# Altium footprint library TO254P483X1016X1944-3B.PcbLib: 1 footprints
Each footprint in its own frame and in the unit in brackets; x right, y up, seen from the top. Pads: shape width x height; smd on the part's side, far side on the other; paste and mask are expansions set on the pad; w line width, h text height; cw(c..) or ccw(c..) is an arc to the next point about the centre after c.
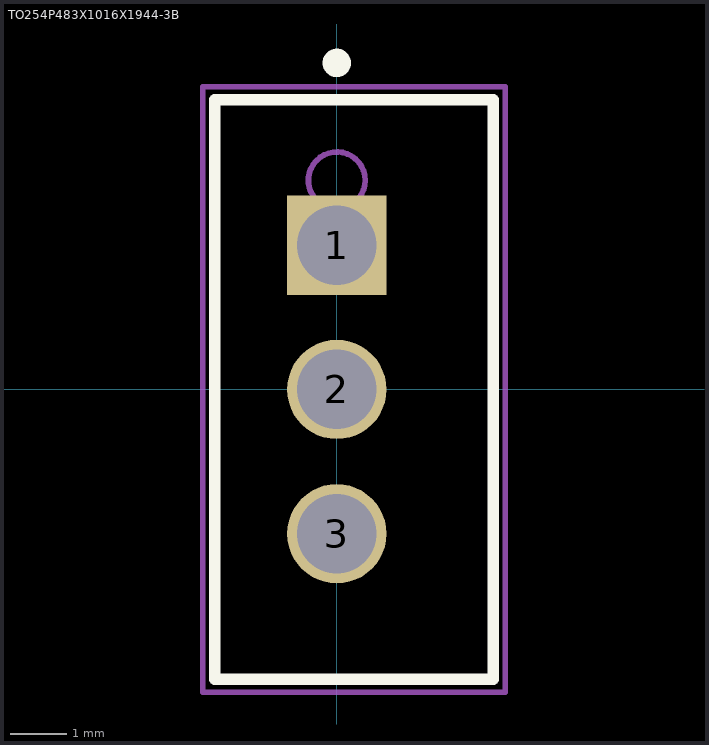
[diagram p0: the footprint, top view; thin cyan lines are the x and y axes]

## TO254P483X1016X1944-3B [mm] "TO,flange mount,2.54mm pitch;3 pin,4.83mm L X 10.16mm W X 19.44mm H body"
height 19.44
pads (3):
  rect 1.75x1.75 hole 1.4 paste+0 mask+0: 1(0,2.54)
  round 1.75 hole 1.4 paste+0 mask+0: 2(0,0) 3(0,-2.54)
Top Overlay:
  circle w0.25: c0,5.75 r0.125
  lines w0.2: -2.147,-5.1 2.753,-5.1 2.753,5.1 -2.147,5.1 -2.147,-5.1
M3 (ASY_Text_Top):
  text ".DESIGNATOR" at 0,0 h1.2
M11 (Dimension_Top):
  text "Note: / 1. 3D Model yet to be Released" at 5.385,4.28 h1.2
M13 (CMP_Body_OTL_Top):
  circle w0.1: c0,3.683 r0.5
  lines w0.1: -2.112,-5.08 -2.112,5.08 2.718,5.08 2.718,-5.08 -2.112,-5.08
M15 (CMP_Courtyard_Top):
  lines w0.1: -0.5,0 0.5,0 ; 0,-0.5 0,0.5 ; -2.362,-5.33 -2.362,5.33 2.968,5.33 2.968,-5.33 -2.362,-5.33